# Altium schematic symbol library battery_socket.SchLib: 1 symbol
Pins are listed as number, name and electrical type; pins without a type are passive.

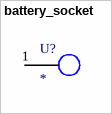
[diagram p0: symbol battery_socket]

## battery_socket
designator U?
Soldering part
footprint PCBComponent_1
pins: 1 (power)